# EAGLE library part MSP430G2X21---PW14 (library MSP430G2xxx)
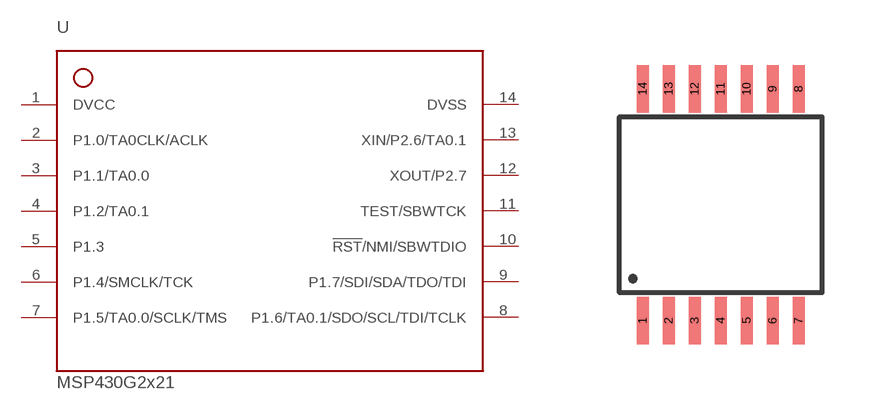
[diagram p0: symbol with the pads of PW14; footprint PW14]

Designator prefix -

## MSP430G2X21---PW14  [PW14]
1  DVCC  pwr
2  P1.0/TA0CLK/ACLK
3  P1.1/TA0.0
4  P1.2/TA0.1
5  P1.3
6  P1.4/SMCLK/TCK
7  P1.5/TA0.0/SCLK/TMS
8  P1.6/TA0.1/SDO/SCL/TDI/TCLK
9  P1.7/SDI/SDA/TDO/TDI
10  !RST!/NMI/SBWTDIO
11  TEST/SBWTCK
12  XOUT/P2.7
13  XIN/P2.6/TA0.1
14  DVSS  pwr

## Footprint PW14 (pad centres in mm)
smd 0.3 x 1.2: 1 -1.95,-2.9; 2 -1.3,-2.9; 3 -0.65,-2.9; 4 0,-2.9; 5 0.65,-2.9; 6 1.3,-2.9; 7 1.95,-2.9; 8 1.95,2.9; 9 1.3,2.9; 10 0.65,2.9; 11 0,2.9; 12 -0.65,2.9; 13 -1.3,2.9; 14 -1.95,2.9